# EAGLE library part CS4354 (library L71_devices)
CS4354 Audio I2S DAC
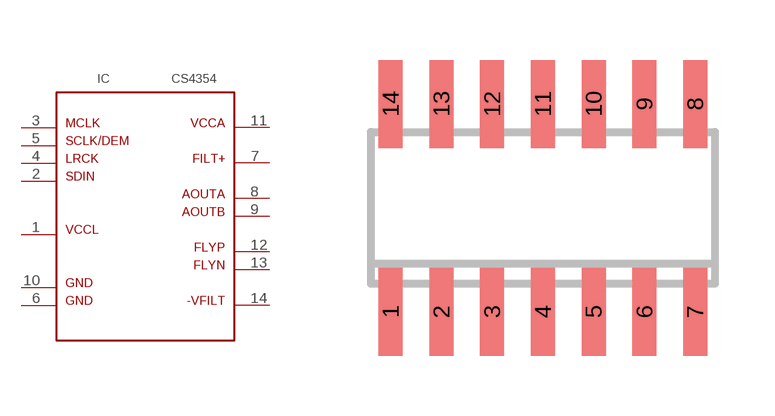
[diagram p1: symbol with the pads of SO14; footprint SO14]

Designator prefix IC

## CS4354  [SO14]
1  P1  pwr
2  P2  in
3  P3  in
4  P4  in
5  P5  in
6  P6  pwr
7  P7
8  P8  out
9  P9  out
10  P10  pwr
11  P11  pwr
12  P12
13  P13
14  P14

## Footprint SO14 (pad centres in mm)
Small Outline Package 14
smd 0.6 x 2.2: 1 -3.81,-2.6; 2 -2.54,-2.6; 3 -1.27,-2.6; 4 0,-2.6; 5 1.27,-2.6; 6 2.54,-2.6; 7 3.81,-2.6; 8 3.81,2.6; 9 2.54,2.6; 10 1.27,2.6; 11 0,2.6; 12 -1.27,2.6; 13 -2.54,2.6; 14 -3.81,2.6